# Altium footprint library mechanical.PcbLib: 12 footprints
Each footprint in its own frame and in the unit in brackets; x right, y up, seen from the top. Pads: shape width x height; smd on the part's side, far side on the other; paste and mask are expansions set on the pad; w line width, h text height; cw(c..) or ccw(c..) is an arc to the next point about the centre after c.
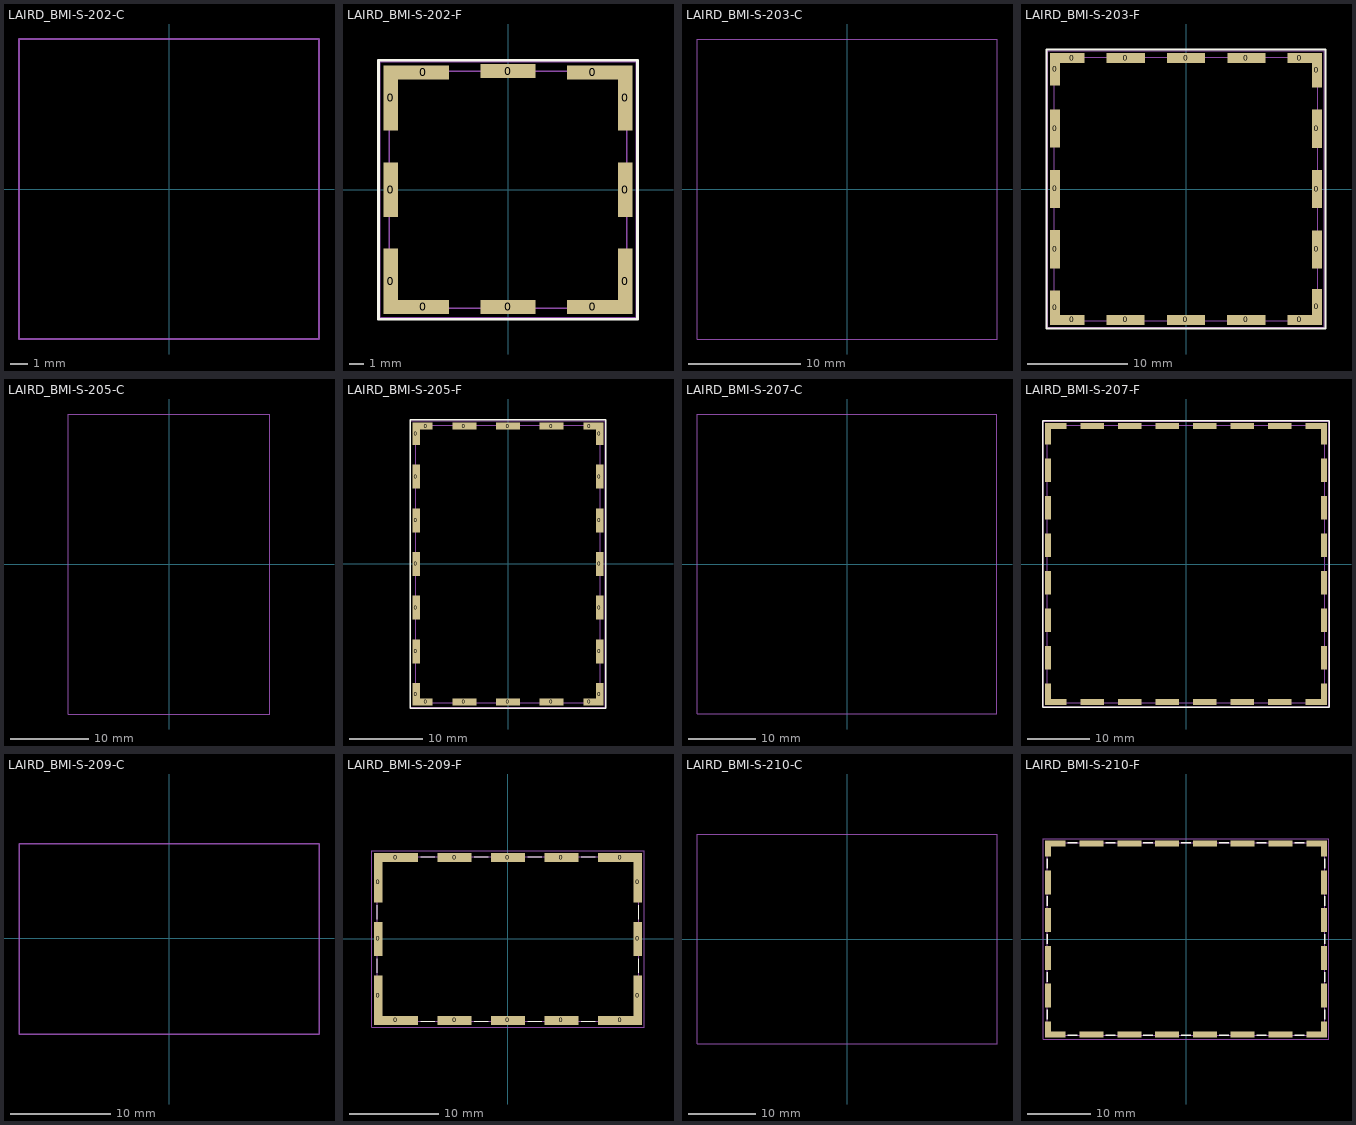
[diagram p0: the footprints below, top view; thin cyan lines are the x and y axes]

## LAIRD_BMI-S-202-C [mm] "Cover for Frame of Standard Surface Mount Shield (Two Piece), External Dimensions 16.5 x 16.5mm"
height 2
Mechanical 1:
  lines w0.1: -8.48,-8.48 8.48,-8.48 8.48,8.48 -8.48,8.48 -8.48,-8.48
3D body "MSBOX_LAIRD_BMI-S-202-C.stp": height 3.73, standoff 1.73, extent -8.48,-8.48 8.48,8.48

## LAIRD_BMI-S-202-F [mm] "Frame of Standard Surface Mount Shield (Two Piece), External Dimensions 16.5 x 16.5mm"
height 3.6
pads (12):
  rect 1x4.55 smd: 0(-8.15,-6.375) 0(-8.15,6.375) 0(8.15,-6.375) 0(8.15,6.375)
  rect 1x3.8 smd: 0(-8.15,0) 0(8.15,0)
  rect 3.55x1 smd: 0(-5.875,-8.15) 0(-5.875,8.15) 0(5.875,-8.15) 0(5.875,8.15)
  rect 3.8x1 smd: 0(0,-8.15) 0(0,8.25)
Top Overlay:
  lines w0.2: -9,-9 9,-9 9,9 -9,9 -9,-9
Mechanical 1:
  lines w0.1: -8.25,-8.25 8.25,-8.25 8.25,8.25 -8.25,8.25 -8.25,-8.25
Mechanical 15:
  lines w0.1: -8.9,-8.9 8.9,-8.9 8.9,8.9 -8.9,8.9 -8.9,-8.9
3D body "MSBOX_LAIRD_BMI-S-202-F.stp": height 3.6, standoff 0, extent -8.3,-8.3 8.3,8.3

## LAIRD_BMI-S-203-C [mm] "Cover for Frame of Standard Surface Mount Shield (Two Piece), External Dimensions 26.67 x 26.67mm"
height 2
Mechanical 1:
  lines w0.1: -13.335,-13.335 -13.335,13.335 13.335,13.335 13.335,-13.335 -13.335,-13.335
3D body "MSBOX_LAIRD_BMI-S-203-C.stp": height 5.21, standoff 3.21, extent -13.335,-13.335 13.335,13.335

## LAIRD_BMI-S-203-F [mm] "Frame of Standard Surface Mount Shield (Two Piece), External Dimensions 26.21 x 26.21mm"
height 5.08
pads (20):
  rect 1x3.41 smd: 0(-13.005,-11.8) 0(13.005,11.8)
  rect 1x3.8 smd: 0(-13.005,-5.995) 0(-13.005,0.005) 0(-13.005,6.005) 0(13.005,-6.005) 0(13.005,-0.005) 0(13.005,5.995)
  rect 1x3.24 smd: 0(-13.005,11.885)
  rect 2.4x1 smd: 0(-11.305,-13.005) 0(11.305,13.005)
  rect 2.41x1 smd: 0(-11.3,13.005) 0(11.3,-13.005)
  rect 3.8x1 smd: 0(-6.005,-13.005) 0(-5.995,13.005) 0(-0.005,-13.005) 0(0.005,13.005) 0(5.995,-13.005) 0(6.005,13.005)
  rect 1x3.57 smd: 0(13.005,-11.72)
Top Overlay:
  lines w0.2: -13.855,-13.855 -13.855,13.855 13.855,13.855 13.855,-13.855 -13.855,-13.855
Mechanical 1:
  lines w0.1: -13.105,-13.105 -13.105,13.105 13.105,13.105 13.105,-13.105 -13.105,-13.105
Mechanical 15:
  lines w0.05: -13.755,-13.755 -13.755,13.755 13.755,13.755 13.755,-13.755 -13.755,-13.755
3D body "MSBOX_LAIRD_BMI-S-203-F.stp": height 5.08, standoff 0, extent -13.155,-13.155 13.155,13.155

## LAIRD_BMI-S-205-C [mm] "Cover for Frame of Standard Surface Mount Shield (Two Piece), External Dimensions 25.86 x 38.56mm"
height 2
Mechanical 1:
  lines w0.1: -12.93,-19.28 12.93,-19.28 12.93,19.28 -12.93,19.28 -12.93,-19.28
3D body "MSBOX_LAIRD_BMI-S-205-C.stp": height 6.13, standoff 4.13, extent -12.93,-19.28 12.93,19.28

## LAIRD_BMI-S-205-F [mm] "Frame of Standard Surface Mount Shield (Two Piece), External Dimensions 25.4 x 38.1mm"
height 6
pads (24):
  rect 1x3.1 smd: 0(-12.6,-17.9) 0(-12.6,17.9) 0(12.6,-17.9) 0(12.6,17.9)
  rect 1x3.3 smd: 0(-12.6,-12) 0(-12.6,-6) 0(-12.6,0) 0(-12.6,6) 0(-12.6,12) 0(12.6,-12) 0(12.6,-6) 0(12.6,0) 0(12.6,6) 0(12.6,12)
  rect 1.75x1 smd: 0(-11.225,-18.953) 0(-11.225,18.95) 0(11.225,-18.95) 0(11.225,18.95)
  rect 3.3x1 smd: 0(-6,-18.957) 0(-6,18.95) 0(0,-18.95) 0(0,18.95) 0(6,-18.95) 0(6,18.95)
Top Overlay:
  lines w0.2: -13.45,-19.8 -13.45,19.8 13.45,19.8 13.45,-19.8 -13.45,-19.8
Mechanical 1:
  lines w0.1: -12.7,-19.05 -12.7,19.05 12.7,19.05 12.7,-19.05 -12.7,-19.05
Mechanical 15:
  lines w0.05: -13.35,-19.7 -13.35,19.7 13.35,19.7 13.35,-19.7 -13.35,-19.7
3D body "MSBOX_LAIRD_BMI-S-205-F.stp": height 6, standoff 0, extent -12.75,-19.1 12.75,19.1

## LAIRD_BMI-S-207-C [mm] "Cover for Frame of Standard Surface Mount Shield (Two Piece), External Dimensions 44.83 x 44.83mm"
height 2
Mechanical 1:
  lines w0.1: -22.415,-22.415 22.415,-22.415 22.415,22.415 -22.415,22.415 -22.415,-22.415
3D body "MSBOX_LAIRD_BMI-S-207-C.stp": height 9.88, standoff 7.88, extent -22.415,-22.415 22.415,22.415

## LAIRD_BMI-S-207-F [mm] "Frame of Standard Surface Mount Shield (Two Piece), External Dimensions 44.37 x 44.37mm"
height 9.75
pads (32):
  rect 1x3.485 smd: 0(-22.085,-20.843) 0(-22.085,20.843) 0(22.085,-20.843) 0(22.085,20.843)
  rect 1x3.8 smd: 0(-22.085,-15) 0(-22.085,-9) 0(-22.085,-3) 0(-22.085,3) 0(-22.085,9) 0(-22.085,15) 0(22.085,-15) 0(22.085,-9) 0(22.085,-3) 0(22.085,3) 0(22.085,9) 0(22.085,15)
  rect 2.485x1 smd: 0(-20.342,-22.085) 0(-20.342,22.085) 0(20.342,-22.085) 0(20.342,22.085)
  rect 3.8x1 smd: 0(-15,-22.085) 0(-15,22.085) 0(-9,-22.085) 0(-9,22.085) 0(-3,-22.085) 0(-3,22.085) 0(3,-22.085) 0(3,22.085) 0(9,-22.085) 0(9,22.085) 0(15,-22.085) 0(15,22.085)
Top Overlay:
  lines w0.2: -22.935,-22.935 -22.935,22.935 22.935,22.935 22.935,-22.935 -22.935,-22.935
Mechanical 1:
  lines w0.1: -22.185,-22.185 22.185,-22.185 22.185,22.185 -22.185,22.185 -22.185,-22.185
Mechanical 15:
  lines w0.05: -22.835,-22.835 -22.835,22.835 22.835,22.835 22.835,-22.835 -22.835,-22.835
3D body "MSBOX_LAIRD_BMI-S-207-F.stp": height 9.75, standoff 0, extent -22.235,-22.235 22.235,22.235

## LAIRD_BMI-S-209-C [mm] "Cover for Frame of Standard Surface Mount Shield (Two Piece), External Dimensions 29.96 x 19.10mm"
Mechanical 1:
  lines w0.127: -15,-9.6 -15,9.5 15,9.5 15,-9.6 -15,-9.6
3D body "bmi-s-209-c-stp-file.STP": height 7, standoff 4, extent -14.98,-9.55 14.98,9.55

## LAIRD_BMI-S-209-F [mm] "Frame of Standard Surface Mount Shield (Two Piece), External Dimensions 29.36 x 18.50mm"
pads (16):
  rect 1x4.55 smd: 0(-14.58,-6.376) 0(-14.58,6.376) 0(14.577,6.372) 0(14.58,-6.374)
  rect 1x3.8 smd: 0(-14.58,0) 0(14.58,0)
  rect 4.98x1 smd: 0(-12.59,-9.15) 0(-12.59,9.15) 0(12.587,9.148) 0(12.59,-9.15)
  rect 3.8x1 smd: 0(-6,-9.15) 0(-6,9.15) 0(0,-9.15) 0(0,9.15) 0(6,-9.15) 0(6,9.15)
Top Overlay:
  lines w0.127: -14.68,-3.78 -14.68,-2.22 ; -14.68,2.22 -14.68,3.78 ; -9.78,-9.25 -8.22,-9.25 ; -9.78,9.25 -8.22,9.25 ; -3.78,-9.25 -2.22,-9.25 ; -3.78,9.25 -2.22,9.25 ; 2.22,-9.25 3.78,-9.25 ; 2.22,9.25 3.78,9.25 ; 8.22,-9.25 9.78,-9.25 ; 8.22,9.25 9.78,9.25 ; 14.68,-3.78 14.68,-2.22 ; 14.68,2.22 14.68,3.78
Mechanical 1:
  lines w0.127: -14.68,-9.25 -14.68,9.25 14.68,9.25 14.68,-9.25 -14.68,-9.25
Mechanical 15:
  lines w0.05: -15.33,-9.9 15.33,-9.9 15.33,9.9
  lines w0.1: -15.33,-9.9 -15.33,9.9 15.33,9.9
3D body "bmi-s-209-f-stp-file.STP": height 7, standoff 0, extent -14.68,-9.2 14.68,9.3

## LAIRD_BMI-S-210-C [mm] "Cover for Frame of Standard Surface Mount Shield (Two Piece), External Dimensions 44.6 x 31.1mm"
height 2.4
Mechanical 1:
  lines w0.1: -22.3,-15.55 -22.3,15.55 22.3,15.55 22.3,-15.55 -22.3,-15.55
3D body "MSBOX_LAIRD_BMI-S-210-C.stp": height 3.2, standoff 0.8, extent -22.3,-15.55 22.3,15.55

## LAIRD_BMI-S-210-F [mm] "Frame of Standard Surface Mount Shield (Two Piece), External Dimensions 44 x 30.5mm"
height 3
pads (28):
  rect 1x1.55 smd: 0(-21.9,-13.875) 0(-21.9,13.875) 0(21.9,-13.875) 0(21.9,13.875)
  rect 1x3.8 smd: 0(-21.9,-9) 0(-21.9,-3) 0(-21.9,3) 0(-21.9,9) 0(21.9,-9) 0(21.9,-3) 0(21.9,3) 0(21.9,9)
  rect 3.3x1 smd: 0(-20.75,-15.15) 0(-20.75,15.15) 0(20.75,-15.15) 0(20.75,15.15)
  rect 3.8x1 smd: 0(-15,-15.15) 0(-15,15.15) 0(-9,-15.15) 0(-9,15.15) 0(-3,-15.15) 0(-3,15.15) 0(3,-15.15) 0(3,15.15) 0(9,-15.15) 0(9,15.15) 0(15,-15.15) 0(15,15.15)
Top Overlay:
  lines w0.2: -22,-12.75 -22,-11.25 ; -22,-6.75 -22,-5.25 ; -22,-0.75 -22,0.75 ; -22,5.25 -22,6.75 ; -22,11.25 -22,12.75 ; -18.75,-15.25 -17.25,-15.25 ; -18.75,15.25 -17.25,15.25 ; -12.75,-15.25 -11.25,-15.25 ; -12.75,15.25 -11.25,15.25 ; -6.75,-15.25 -5.25,-15.25 ; -6.75,15.25 -5.25,15.25 ; -0.75,-15.25 0.75,-15.25 ; -0.75,15.25 0.75,15.25 ; 5.25,-15.25 6.75,-15.25 ; 5.25,15.25 6.75,15.25 ; 11.25,-15.25 12.75,-15.25 ; 11.25,15.25 12.75,15.25 ; 17.25,-15.25 18.75,-15.25 ; 17.25,15.25 18.75,15.25 ; 22,-12.75 22,-11.25 ; 22,-6.75 22,-5.25 ; 22,-0.75 22,0.75 ; 22,5.25 22,6.75 ; 22,11.25 22,12.75
Mechanical 1:
  lines w0.1: -22,-15.25 22,-15.25 22,15.25 -22,15.25 -22,-15.25
Mechanical 15:
  lines w0.05: -22.65,-15.9 -22.65,15.9 22.65,15.9 22.65,-15.9 -22.65,-15.9
3D body "MSBOX_LAIRD_BMI-S-210-F.stp": height 3, standoff 0, extent -22,-15.251 22.002,15.252